# EAGLE library part 74F193PC (library Fairchild_By_element14_Batch_1)
Up/Down Binary Counter
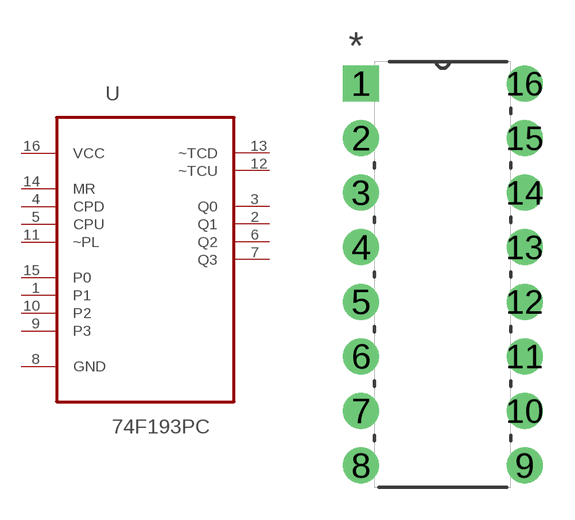
[diagram p59: symbol with the pads of DIP254P762X508-16; footprint DIP254P762X508-16]

Designator prefix U

## 74F193PC (MPN: 74F193PC; OC_FARNELL: 1013894; OC_NEWARK: 58K3263; PACKAGE: PDIP-16; SUPPLIER: Fairchild)  [DIP254P762X508-16]
1  P1  in
2  Q1  out
3  Q0  out
4  CPD  in
5  CPU  in
6  Q2  out
7  Q3  out
8  GND  pas
9  P3  in
10  P2  in
11  ~PL  in
12  ~TCU  out
13  ~TCD  out
14  MR  in
15  P0  in
16  VCC  pwr

## Footprint DIP254P762X508-16 (pad centres in mm)
drill 1.118 square: 1 -7.62,17.78
drill 1.118: 2 -7.62,15.24; 3 -7.62,12.7; 4 -7.62,10.16; 5 -7.62,7.62; 6 -7.62,5.08; 7 -7.62,2.54; 8 -7.62,0; 9 0,0; 10 0,2.54; 11 0,5.08; 12 0,7.62; 13 0,10.16; 14 0,12.7; 15 0,15.24; 16 0,17.78